# Altium schematic symbol library ESD_CAN_Sch.SchLib: 1 symbol
Pins are listed as number, name and electrical type; pins without a type are passive.

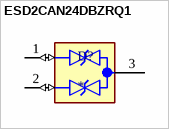
[diagram p0: symbol ESD2CAN24DBZRQ1]

## ESD2CAN24DBZRQ1
designator D?
Automotive, dual, 3-pF, ±24-V, ±30-kV ESD protection diode for in-vehicle networks; MF: Texas Instruments; MP: ESD2CAN24DBZRQ1; SnapEDA_Link: https://www.snapeda.com/parts/ESD2CAN24DBZRQ1/Texas+Instruments/view-part/?ref=snap; Package: SOT-23 Texas Instruments; Value: *; Check_prices: https://www.snapeda.com/parts/ESD2CAN24DBZRQ1/Texas+Instruments/view-part/?ref=eda
footprint SOT95P237X112-3N
pins: 1 IO1 (io), 2 IO2 (io), 3 GND (power)